# EAGLE library part INA333 (library Ampparts)
Instrumentation Amplifier 1 Circuit Rail-to-Rail 8-VSSOP
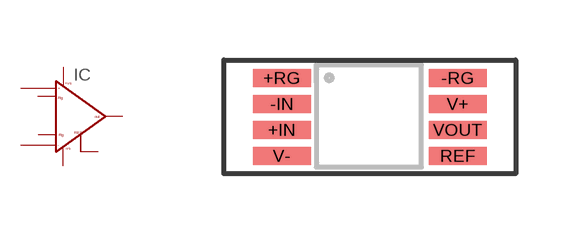
[diagram p2: symbol with the pads of 8-VSSOP; footprint 8-VSSOP]

Designator prefix IC

## INA333 (MANUFACTURER: Texas Instruments; PACKAGE: 8-VSSOP; PARTNO: INA333AIDGKRG4)  [8-VSSOP]
+IN  +IN
+RG  +RG
-IN  -IN
-RG  RG-
REF  REF
V+  +VS
V-  -VS
VOUT  OUT

## Footprint 8-VSSOP (pad centres in mm)
smd 1.45 x 0.45: +IN -0.001,-1.3; +RG -0.001,0; -IN -0.001,-0.65; -RG 4.399,0; REF 4.399,-1.95; V+ 4.399,-0.65; V- -0.001,-1.95; VOUT 4.399,-1.3